# Altium footprint library PCB - CONNECTOR - AMPHENOL - AMPHENOL F3311A7H121016E200.PCBLIB: 1 footprints
Each footprint in its own frame and in the unit in brackets; x right, y up, seen from the top. Pads: shape width x height; smd on the part's side, far side on the other; paste and mask are expansions set on the pad; w line width, h text height; cw(c..) or ccw(c..) is an arc to the next point about the centre after c.
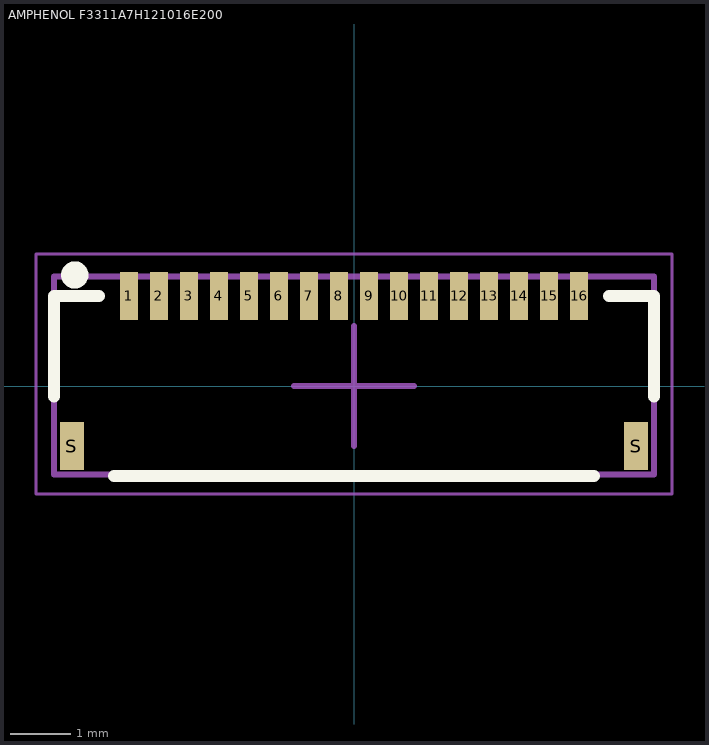
[diagram p0: the footprint, top view; thin cyan lines are the x and y axes]

## AMPHENOL F3311A7H121016E200 [mm] "16 Position FFC, FPC Connector Contacts, Top and Bottom 0.020\" (0.50mm) Surface Mount, Right Angle"
height 1
pads (18):
  rect 0.3x0.8 smd: 1(-3.75,1.5) 2(-3.25,1.5) 3(-2.75,1.5) 4(-2.25,1.5) 5(-1.75,1.5) 6(-1.25,1.5) 7(-0.75,1.5) 8(-0.25,1.5) 9(0.25,1.5) 10(0.75,1.5) 11(1.25,1.5) 12(1.75,1.5) 13(2.25,1.5) 14(2.75,1.5) 15(3.25,1.5) 16(3.75,1.5)
  rect 0.4x0.8 smd: S(-4.7,-1) S(4.7,-1)
Top Overlay:
  circle w0.254: c-4.65,1.85 r0.1
  lines w0.2: -5,-0.175 -5,1.5 -4.25,1.5 ; -4,-1.5 4,-1.5 ; 4.25,1.5 5,1.5 5,-0.175
Mechanical 13:
  lines w0.1: -5,-1.475 5,-1.475 5,1.825 -5,1.825 -5,-1.475
Mechanical 15:
  lines w0.05: -5.3,-1.8 -5.3,2.2 5.3,2.2 5.3,-1.8 -5.3,-1.8
  lines w0.1: -1,0 1,0 ; 0,-1 0,1
3D body "Amphenol F3311A7H121016E200.step": height 1.62, standoff 0, extent -5,-1.5 5,1.8